# EAGLE library part GY-521 (library draradech)
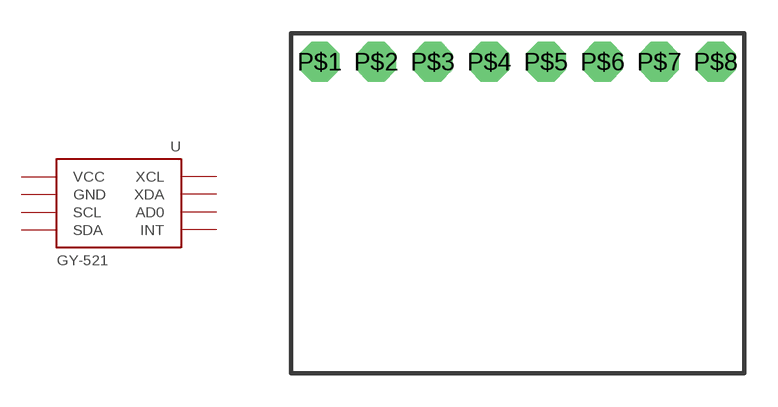
[diagram p4: symbol with the pads of GY-521; footprint GY-521]

Designator prefix U

## GY-521  [GY-521]
P$1  INT
P$2  AD0
P$3  XDA
P$4  XCL
P$5  SDA
P$6  SCL
P$7  GND
P$8  VCC

## Footprint GY-521 (pad centres in mm)
drill 1 pad 1.778 octagon: P$1 0,0; P$2 2.54,0; P$3 5.08,0; P$4 7.62,0; P$5 10.16,0; P$6 12.7,0; P$7 15.24,0; P$8 17.78,0